# Altium integrated library 5-102618-1.IntLib: 2 symbols
Pins are listed as number, name and electrical type; pins without a type are passive.

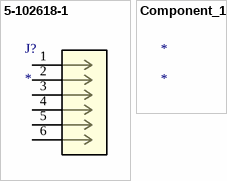
[diagram p0: symbols 5-102618-1 to Component_1]

## 5-102618-1
designator J?
No Description Available; Mfr_Name: TE Connectivity; TYPE: Header; RefDes: RefDes
footprint CONN_102618-1_TEC
pins: 1, 2, 3, 4, 5, 6

## Component_1
designator *